# Altium footprint library capsmd.PcbLib: 33 footprints (part 2 of 3)
Each footprint in its own frame and in the unit in brackets; x right, y up, seen from the top. Pads: shape width x height; smd on the part's side, far side on the other; paste and mask are expansions set on the pad; w line width, h text height; cw(c..) or ccw(c..) is an arc to the next point about the centre after c.
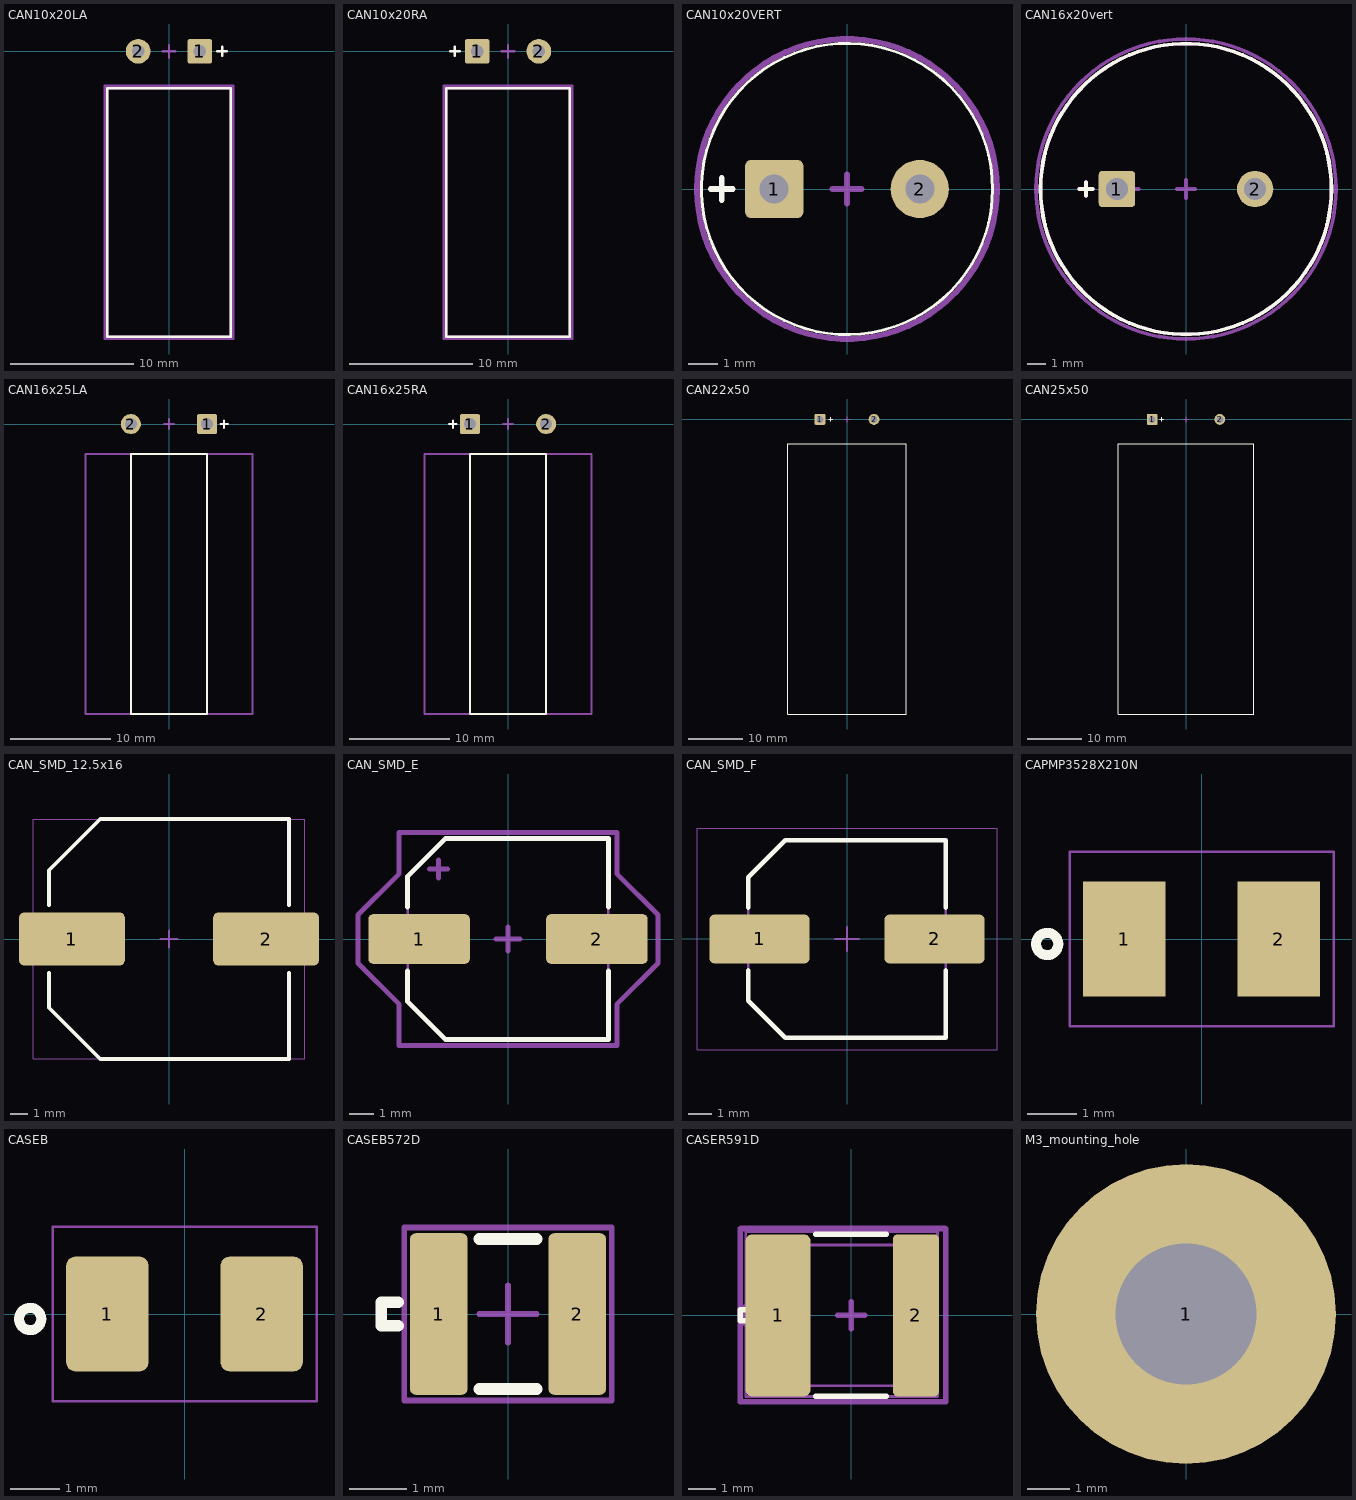
[diagram p1: the footprints below, top view; thin cyan lines are the x and y axes]

## CAN10x20LA [mm] "IPC High Density"
height 4
pads (2):
  rrect20% 2x2 hole 1: 1(2.5,0)
  round 2 hole 1: 2(-2.5,0)
Top Overlay:
  lines w0.2: 3.925,0 4.675,0 ; 4.3,-0.375 4.3,0.375 ; -5,-23.1 -5,-3 5,-3 5,-23.1 -5,-23.1
M3_comm_top:
  text ".comment" at -0.9,-0.3 h1
M5_asm_top:
  lines w0.2: -5,-23.1 5,-23.1 5,-3 -5,-3 -5,-23.1
  text ".Designator" at -1.5,0.9 h1
M7_courtyard_top:
  lines w0.2: -0.5,0 0.5,0 ; 0,-0.5 0,0.5 ; -5.2,-23.3 5.2,-23.3 5.2,-2.8 -5.2,-2.8 -5.2,-23.3
3D body "User Library-Cap electro 10x20x5_0mm.step": height 10.53, standoff 0.47, extent -5.025,-23.125 5.025,1.141

## CAN10x20RA [mm] "IPC High Density"
height 4
pads (2):
  rrect20% 2x2 hole 1: 1(-2.5,0)
  round 2 hole 1: 2(2.5,0)
Top Overlay:
  lines w0.2: -4.675,0 -3.925,0 ; -4.3,-0.375 -4.3,0.375 ; -5,-23.1 -5,-3 5,-3 5,-23.1 -5,-23.1
M3_comm_top:
  text ".comment" at -0.9,-0.3 h1
M5_asm_top:
  lines w0.2: -5,-23.1 5,-23.1 5,-3 -5,-3 -5,-23.1
  text ".Designator" at -1.5,0.9 h1
M7_courtyard_top:
  lines w0.2: -0.5,0 0.5,0 ; 0,-0.5 0,0.5 ; -5.2,-23.3 5.2,-23.3 5.2,-2.8 -5.2,-2.8 -5.2,-23.3
3D body "User Library-Cap electro 10x20x5_0mm.step": height 10.53, standoff 0.47, extent -5.025,-23.125 5.025,1.141

## CAN10x20VERT [mm] "IPC High Density"
height 4
pads (2):
  rrect20% 2x2 hole 1: 1(-2.5,0)
  round 2 hole 1: 2(2.5,0)
Top Overlay:
  circle w0.1: c0,0 r5
  lines w0.2: -4.675,0 -3.925,0 ; -4.3,-0.375 -4.3,0.375
M3_comm_top:
  text ".comment" at -0.9,-0.3 h1
M5_asm_top:
  text ".Designator" at -1.5,0.9 h1
M7_courtyard_top:
  circle w0.2: c0,0 r5.15
  lines w0.2: -0.5,0 0.5,0 ; 0,-0.5 0,0.5
Mechanical 15:
  lines w0.1: -0.5,0 0.5,0 -0.5,0 ; 0,-0.5 0,0.5 0,-0.5
3D body "User Library-Cap electro 10x20x5_0mm.step": height 20.58, standoff -3.69, extent -5.026,-5.026 5.025,5.025

## CAN16x20vert [mm] "TKR100M2GG16, IPC High Density"
height 4
pads (2):
  rrect20% 2x2 hole 1.2: 1(-3.8,0)
  round 2 hole 1.2: 2(3.8,0)
Top Overlay:
  circle w0.2: c0,0 r8
  lines w0.2: -5.875,0 -5.125,0 ; -5.5,-0.375 -5.5,0.375
M3_comm_top:
  text ".comment" at -0.9,-0.3 h1
M5_asm_top:
  circle w0.2: c0,0 r8
  lines w0.2: -5.9,0 -5.1,0 ; -5.5,-0.4 -5.5,0.4
  text ".Designator" at -1.5,0.9 h1
M7_courtyard_top:
  circle w0.2: c0,0 r8.25
  lines w0.2: -0.5,0 0.5,0 ; 0,-0.5 0,0.5
Mechanical 13:
  lines w0.2: -3.35,0 -2.6,0 ; -2.975,-0.375 -2.975,0.375
Mechanical 15:
  lines w0.1: -0.5,0 0.5,0 ; 0,-0.5 0,0.5
3D body "User Library-CAPAER_D160_L200_P075_W008X030.STEP": height 20.06, standoff -2.95, extent -8,-8 8.01,8

## CAN16x25LA [mm] "IPC High Density"
height 4
pads (2):
  rrect20% 2x2 hole 1.2: 1(3.8,0)
  round 2 hole 1.2: 2(-3.8,0)
Top Overlay:
  lines w0.2: 5.125,0 5.875,0 ; 5.5,-0.375 5.5,0.375 ; -3.8,-28.9 -3.8,-3 3.8,-3 3.8,-28.9 -3.8,-28.9
M3_comm_top:
  text ".comment" at -0.9,-0.3 h1
M5_asm_top:
  lines w0.2: -8.3,-28.9 8.3,-28.9 8.3,-3 -8.3,-3 -8.3,-28.9
  text ".Designator" at -1.5,0.9 h1
M7_courtyard_top:
  lines w0.2: -0.5,0 0.5,0 ; 0,-0.5 0,0.5
Mechanical 15:
  lines w0.1: -0.5,0 0.5,0 ; 0,-0.5 0,0.5
3D body: height 8, standoff -2, extent -4.2,-0.399 -3.403,0.399
3D body: height 8, standoff -2, extent 3.4,-0.399 4.197,0.399
3D body "User Library-CE_R300_D650_H1000.step": height 16.5, standoff 0, extent -8.25,-28.9 8.25,0

## CAN16x25RA [mm] "IPC High Density"
height 4
pads (2):
  rrect20% 2x2 hole 1.2: 1(-3.8,0)
  round 2 hole 1.2: 2(3.8,0)
Top Overlay:
  lines w0.2: -5.875,0 -5.125,0 ; -5.5,-0.375 -5.5,0.375 ; -3.8,-28.9 3.8,-28.9 3.8,-3 -3.8,-3 -3.8,-28.9
M3_comm_top:
  text ".comment" at -0.9,-0.3 h1
M5_asm_top:
  lines w0.2: -8.3,-28.9 -8.3,-3 8.3,-3 8.3,-28.9 -8.3,-28.9
  text ".Designator" at -1.5,0.9 h1
M7_courtyard_top:
  lines w0.2: -0.5,0 0.5,0 ; 0,-0.5 0,0.5
Mechanical 15:
  lines w0.1: -0.5,0 0.5,0 ; 0,-0.5 0,0.5
3D body "User Library-CE_R300_D650_H1000.step": height 16.5, standoff 0, extent -8.25,-28.9 8.25,0
3D body: height 8, standoff -2, extent -4.197,-0.399 -3.4,0.399
3D body: height 8, standoff -2, extent 3.403,-0.399 4.2,0.399

## CAN22x50 [mm] "IPC High Density"
height 4
pads (2):
  rrect20% 2x2 hole 1.3: 1(-5,0)
  round 2 hole 1.3: 2(5,0)
Top Overlay:
  lines w0.15: -11,-54.5 -11,-4.5 11,-4.5 11,-54.5 -11,-54.5
  lines w0.2: -3.375,0 -2.625,0 ; -3,-0.375 -3,0.375
Mechanical 13:
  lines w0.2: -3.35,0 -2.6,0 ; -2.975,-0.375 -2.975,0.375
Mechanical 15:
  lines w0.1: -0.5,0 0.5,0 ; 0,-0.5 0,0.5
3D body: height 11.4, standoff 10.6, extent 4.6,-3 5.4,0
3D body: height 11, standoff -2, extent 4.603,-0.399 5.4,0.4
3D body: height 11.4, standoff 10.6, extent 4.601,-0.4 5.4,0.4
3D body "electrolitic radial 22x50.STEP": height 21.99, standoff 0.01, extent -10.989,-54.5 10.996,-3
3D body: height 11.4, standoff 10.6, extent -5.399,-0.4 -4.6,0.4
3D body: height 11, standoff -2, extent -5.397,-0.399 -4.6,0.4
3D body: height 11.4, standoff 10.6, extent -5.4,-3 -4.6,0

## CAN25x50 [mm] "IPC High Density"
height 4
pads (2):
  rrect20% 2x2 hole 1.3: 1(-6.25,0)
  round 2 hole 1.3: 2(6.25,0)
Top Overlay:
  lines w0.15: -12.5,-54.5 -12.5,-4.5 12.5,-4.5 12.5,-54.5 -12.5,-54.5
  lines w0.2: -4.85,0 -4.1,0 ; -4.475,-0.375 -4.475,0.375
Mechanical 13:
  lines w0.2: -4.85,0 -4.1,0 ; -4.475,-0.375 -4.475,0.375
Mechanical 15:
  lines w0.1: -0.5,0 0.5,0 ; 0,-0.5 0,0.5
3D body: height 13.1, standoff 12.1, extent 5.751,-0.5 6.75,0.5
3D body: height 13.1, standoff 12.1, extent -6.749,-0.5 -5.75,0.5
3D body: height 12.6, standoff -2, extent 5.754,-0.499 6.75,0.499
3D body: height 12.6, standoff -2, extent -6.746,-0.499 -5.75,0.499
3D body "User Library-Cap electrolitic radial 25x50.STEP": height 25.08, standoff 0.1, extent -12.491,-54.5 12.496,-3
3D body: height 13.1, standoff 12.1, extent -6.75,-3 -5.75,0
3D body: height 13.1, standoff 12.1, extent 5.75,-3 6.75,0

## CAN_SMD_12.5x16 [mm] "Aluminum Electrolytic Capacitor, Body 8,30x8,30x10,50mm, IPC Medium Density"
height 10.5
pads (2):
  rrect20% 6x3 smd: 1(-5.5,0) 2(5.5,0)
Top Overlay:
  lines w0.2: -6.8,-1.9 -6.8,-3.9 -3.9,-6.8 4.15,-6.8 6.8,-6.8 6.8,-1.9 ; -6.8,1.9 -6.8,3.9 -3.9,6.8 4.1,6.8 4.15,6.8 6.8,6.8 6.8,1.9
Mechanical 15:
  lines w0.05: -7.7,-6.8 -7.7,6.8 7.7,6.8 7.7,-6.8 -7.7,-6.8
  lines w0.1: -0.5,0 0.5,0 ; 0,-0.5 0,0.5
3D body "User Library-ALU-H16.step": height 17, standoff 0, extent -7.75,-6.85 7.75,6.85

## CAN_SMD_E [mm] "Aluminum Electrolytic Capacitor, Body 8,3x6,2mm, IPC Medium Density"
height 10.5
pads (2):
  rrect20% 4.2x2.05 smd: 1(-3.675,0) 2(3.675,0)
Top Overlay:
  lines w0.2: -4.15,-1.325 -4.15,-2.588 -2.587,-4.15 4.15,-4.15 4.15,-1.325 ; -4.15,1.325 -4.15,2.587 -2.587,4.15 4.15,4.15 4.15,1.325
M5_asm_top:
  lines w0.1: -4.15,-2.588 -2.587,-4.15 4.15,-4.15 4.15,4.15 -2.587,4.15 -4.15,2.587 -4.15,-2.588
  lines w0.2: -3.25,2.9 -2.5,2.9 ; -2.875,2.525 -2.875,3.275
  text ".Designator" at -1,2.7 h1
M7_courtyard_top:
  lines w0.2: -0.5,0 0.5,0 ; 0,-0.5 0,0.5 ; -6.2,-1 -4.5,-2.7 -4.5,-4.4 4.5,-4.4 4.5,-2.7 6.2,-1 6.2,1 4.5,2.7 4.5,4.4 -4.5,4.4 -4.5,2.7 -6.2,1 -6.2,-1
Mechanical 15:
  lines w0.1: -0.5,0 0.5,0
3D body "capacitor 8x6.2.step": height 6.1, standoff 0, extent -4.774,-4.151 4.774,4.151

## CAN_SMD_F [mm] "Aluminum Electrolytic Capacitor, Body 8,30x8,30x10,50mm, IPC Medium Density"
height 10.5
pads (2):
  rrect20% 4.2x2.05 smd: 1(-3.675,0) 2(3.675,0)
Top Overlay:
  lines w0.2: -4.15,-1.325 -4.15,-2.588 -2.587,-4.15 4.15,-4.15 4.15,-1.325 ; -4.15,1.325 -4.15,2.587 -2.587,4.15 4.15,4.15 4.15,1.325
Mechanical 13:
  lines w0.1: -4.15,-2.588 -4.15,2.587 -2.587,4.15 4.15,4.15 4.15,-4.15 -2.587,-4.15 -4.15,-2.588
Mechanical 15:
  lines w0.05: -6.3,-4.65 6.3,-4.65 6.3,4.65 -6.3,4.65 -6.3,-4.65
  lines w0.1: -0.5,0 0.5,0 ; 0,-0.5 0,0.5
3D body "CAN_SMD_F.step": height 10.5, standoff 0, extent -5,-4.15 5,4.15

## CAPMP3528X210N [mm]
pads (2):
  rect 1.65x2.3 smd: 1(-1.55,0) 2(1.55,0)
Top Overlay:
  circle w0.2: c-3.1,-0.1 r0.224
M1_3D_TOP:
  lines w0.05: -2.65,-1.75 2.65,-1.75 2.65,1.75 -2.65,1.75 -2.65,-1.75

## CASEB [mm]
pads (2):
  rrect20% 1.65x2.3 smd: 1(-1.55,0) 2(1.55,0)
Top Overlay:
  circle w0.2: c-3.1,-0.1 r0.224
M1_3D_TOP:
  lines w0.05: -2.65,-1.75 2.65,-1.75 2.65,1.75 -2.65,1.75 -2.65,-1.75
3D body "Case B.STEP": height 2.09, standoff -0.01, extent -1.8,-1.41 1.891,1.41

## CASEB572D [mm] "IPC High Density"
height 1.45
pads (2):
  rrect20% 1x2.8 smd: 1(-1.2,0) 2(1.2,0)
Top Overlay:
  lines w0.2: -1.9,-0.2 -2.2,-0.2 -2.2,0.2 -1.9,0.2 ; -0.5,-1.3 0.5,-1.3 ; -0.5,1.3 0.5,1.3
Mechanical 13:
  lines w0.1: -1.8,-1.5 1.8,-1.5 1.8,1.5 -1.8,1.5 -1.8,-1.5
Mechanical 15:
  lines w0.05: -1.8,-1.5 1.8,-1.5 1.8,1.5 -1.8,1.5 -1.8,-1.5
  lines w0.1: -0.5,0 0.5,0 ; 0,-0.5 0,0.5
3D body "592DcaseA.step": height 1.5, standoff 0, extent -1.9,-0.9 1.5,0.9

## CASER591D [mm] "IPC High Density"
height 1.45
pads (2):
  rrect20% 2.4x6 smd: 1(-2.7,0)
  rrect20% 1.7x6 smd: 2(2.4,0)
Top Overlay:
  lines w0.2: -3.8,-0.2 -4.1,-0.2 -4.1,0.2 -3.8,0.2 ; -1.3,-3 1.3,-3 ; -1.3,3 1.3,3
M3_comm_top:
  text ".comment" at -0.9,-0.3 h1
M5_asm_top:
  lines w0.1: -3.3,-0.4 -3.9,-0.4 -4,-0.3 -4,0.3 -3.9,0.4 -3.3,0.4 ; -3.3,-2.1 -3.3,2.1 -2.8,2.6 2.5,2.6 2.5,-2.6 -2.8,-2.6 -3.3,-2.1
  text ".Designator" at -1.4,3.2 h1
M7_courtyard_top:
  lines w0.2: -0.5,0 0.5,0 ; 0,-0.5 0,0.5 ; -4.1,-3.2 -4.1,3.2 3.5,3.2 3.5,-3.2 -4.1,-3.2
Mechanical 13:
  lines w0.1: -3.9,-3 3.2,-3 3.2,3.1 -3.9,3.1 -3.9,-3
Mechanical 15:
  lines w0.05: -4.1,-3.2 3.5,-3.2 3.5,3.3 -4.1,3.3 -4.1,-3.2
  lines w0.1: -0.5,0 0.5,0 ; 0,-0.5 0,0.5
3D body: height 2, standoff 0, extent -3.9,-2.5 2.5,2.5

## M3_mounting_hole [mm] "M3_mounting_hole"
pads (1):
  round 7 hole 3.3: 1(0,0)
3D body "mounting hole_um.STEP": height 0, standoff 0, extent -3.5,-3.5 3.5,3.5
3D body "mounting hole_um.STEP": height 0, standoff 0, extent -3.5,-3.5 3.5,3.5